# Altium schematic symbol library kmilo17pet-AD_Isolators.SchLib: 645 symbols (part 7 of 36)
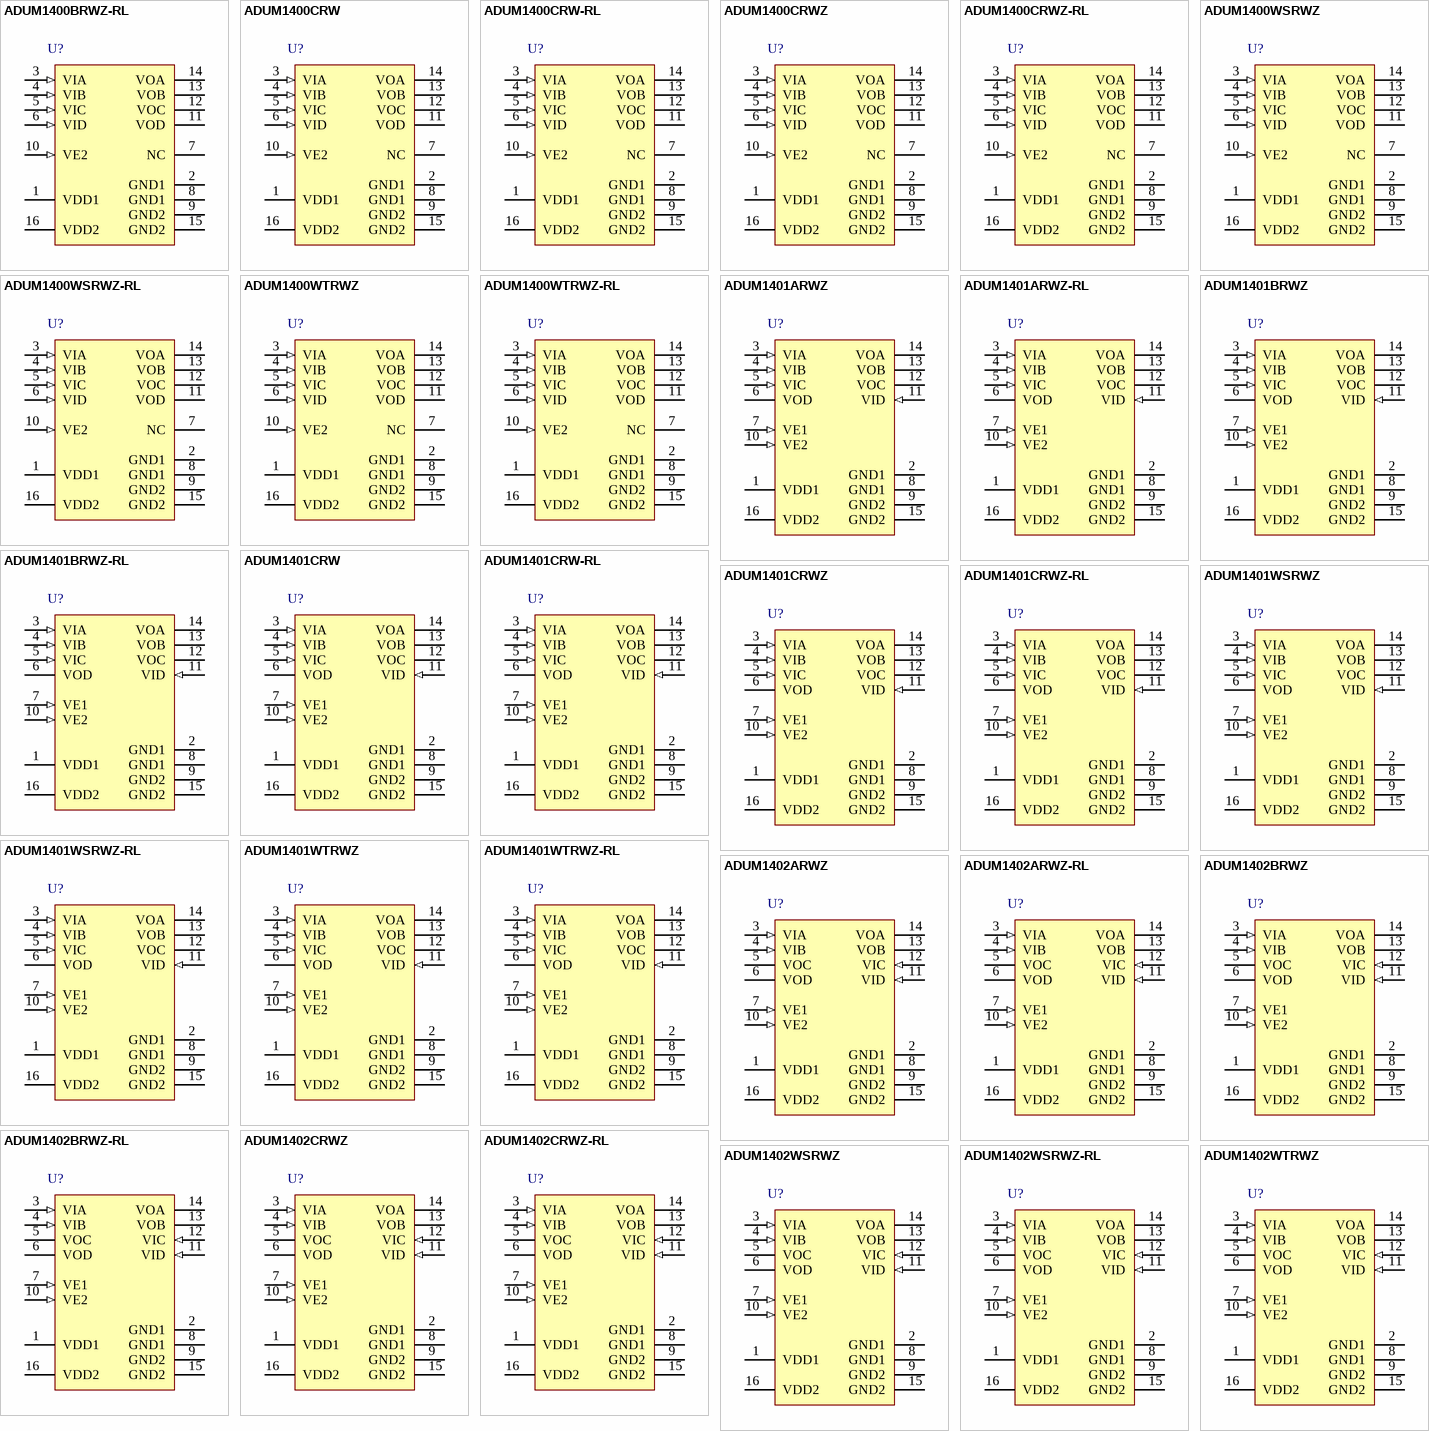
[diagram p26: symbols ADUM1400BRWZ-RL to ADUM1402WTRWZ]

## ADUM1402ARWZ-RL
designator U?
Quad Channel Digital Isolator, 2.5 KV rms Insulation Rating, 1 Mbps Data Rate, 100 ns Delay, Industrial, 16-pin SOIC (RW-16), Reel; Manufacturer: Analog Devices; PartNumber: ADUM1402ARWZ-RL; Max Data Rate: 1Mbps; DatasheetVersion: Rev. H; PackageVersion: 032707-B, 03/2007; PackageReference: RW-16; PackageDescription: 16-Pin Standard Small Outline Package, Body 10.3 x 7.5 mm, Pitch 1.27 mm; Supplier 1: Digi-Key; Supplier Part Number 1: ADUM1402ARWZ-RLTR-ND; Max Operating Temp (degreesC): 125; Mounting Technology: Surface Mount; Code_JEDEC: MS-013-AA; ComponentLink1Description: Manufacturer URL; ComponentLink1URL: http://www.analog.com/en/index.html; ComponentLink2Description: Datasheet; ComponentLink2URL: http://www.analog.com/static/imported-files/data_sheets/ADuM1400_1401_1402.pdf; ComponentLink3Description: Package Specification; ComponentLink3URL: http://www.analog.com/static/imported-files/packages/PKG_PDF/SOIC_WIDE%20%28RW%29/RW_16.pdf; ComponentLink4Description: URL Link1; ComponentLink4URL: Product URL:http://www.analog.com/en/interface-isolation/digital-isolators/adum1402/products/product.html; ComponentLink5Description: URL Link2; ComponentLink5URL: Reference Circuit:http://www.analog.com/en/interface-isolation/digital-isolators/adum1402/products/product.html#product-recommendations
footprint ADI-RW-16_N (SOIC, 16-Leads, Body 10.3x7.5mm, Pitch 1.27mm, IPC Medium Density)
footprint ADI-RW-16_L (SOIC, 16-Leads, Body 10.3x7.5mm, Pitch 1.27mm, IPC High Density)
footprint ADI-RW-16_M (SOIC, 16-Leads, Body 10.3x7.5mm, Pitch 1.27mm, IPC Low Density)
pins: 1 VDD1 (power) "Supply Voltage for Isolator Side 1.", 2 GND1 (power) "Ground 1. Ground reference for Isolator Side 1.", 3 VIA (in) "Logic Input A.", 4 VIB (in) "Logic Input B.", 5 VOC (hiz) "Logic Output C.", 6 VOD (hiz) "Logic Output D.", 7 VE1 (in) "Output Enable 1. Active high logic input. VOC and VOD outputs are enabled when VE1 is high or disconnected. VOC and VOD outputs are disabled when VE1 is low. In noisy environments, connecting VE1 to an external logic high or (See Datasheet)", 8 GND1 (power) "Ground 1. Ground reference for Isolator Side 1.", 9 GND2 (power) "Ground 2. Ground reference for Isolator Side 2.", 10 VE2 (in) "Output Enable 2. Active high logic input. VOA and VOB outputs are enabled when VE2 is high or disconnected. VOA and VOB outputs are disabled when VE2 is low. In noisy environments, connecting VE2 to an external logic high or (See Datasheet)", 11 VID (in) "Logic Input D.", 12 VIC (in) "Logic Input C.", 13 VOB (hiz) "Logic Output B.", 14 VOA (hiz) "Logic Output A.", 15 GND2 (power) "Ground 2. Ground reference for Isolator Side 2.", 16 VDD2 (power) "Supply Voltage for Isolator Side 2."

## ADUM1402BRWZ
designator U?
Quad Channel Digital Isolator, 2.5 KV rms Insulation Rating, 10 Mbps Data Rate, 50 ns Delay, Industrial, 16-pin SOIC (RW-16), Tube; Manufacturer: Analog Devices; PartNumber: ADUM1402BRWZ; Max Data Rate: 10Mbps; DatasheetVersion: Rev. H; PackageVersion: 032707-B, 03/2007; PackageReference: RW-16; PackageDescription: 16-Pin Standard Small Outline Package, Body 10.3 x 7.5 mm, Pitch 1.27 mm; Supplier 1: Digi-Key; Supplier Part Number 1: ADUM1402BRWZ-ND; Max Operating Temp (degreesC): 125; Mounting Technology: Surface Mount; Code_JEDEC: MS-013-AA; ComponentLink1Description: Manufacturer URL; ComponentLink1URL: http://www.analog.com/en/index.html; ComponentLink2Description: Datasheet; ComponentLink2URL: http://www.analog.com/static/imported-files/data_sheets/ADuM1400_1401_1402.pdf; ComponentLink3Description: Package Specification; ComponentLink3URL: http://www.analog.com/static/imported-files/packages/PKG_PDF/SOIC_WIDE%20%28RW%29/RW_16.pdf; ComponentLink4Description: URL Link1; ComponentLink4URL: Product URL:http://www.analog.com/en/interface-isolation/digital-isolators/adum1402/products/product.html; ComponentLink5Description: URL Link2; ComponentLink5URL: Reference Circuit:http://www.analog.com/en/interface-isolation/digital-isolators/adum1402/products/product.html#product-recommendations
footprint ADI-RW-16_N (SOIC, 16-Leads, Body 10.3x7.5mm, Pitch 1.27mm, IPC Medium Density)
footprint ADI-RW-16_L (SOIC, 16-Leads, Body 10.3x7.5mm, Pitch 1.27mm, IPC High Density)
footprint ADI-RW-16_M (SOIC, 16-Leads, Body 10.3x7.5mm, Pitch 1.27mm, IPC Low Density)
pins: 1 VDD1 (power) "Supply Voltage for Isolator Side 1.", 2 GND1 (power) "Ground 1. Ground reference for Isolator Side 1.", 3 VIA (in) "Logic Input A.", 4 VIB (in) "Logic Input B.", 5 VOC (hiz) "Logic Output C.", 6 VOD (hiz) "Logic Output D.", 7 VE1 (in) "Output Enable 1. Active high logic input. VOC and VOD outputs are enabled when VE1 is high or disconnected. VOC and VOD outputs are disabled when VE1 is low. In noisy environments, connecting VE1 to an external logic high or (See Datasheet)", 8 GND1 (power) "Ground 1. Ground reference for Isolator Side 1.", 9 GND2 (power) "Ground 2. Ground reference for Isolator Side 2.", 10 VE2 (in) "Output Enable 2. Active high logic input. VOA and VOB outputs are enabled when VE2 is high or disconnected. VOA and VOB outputs are disabled when VE2 is low. In noisy environments, connecting VE2 to an external logic high or (See Datasheet)", 11 VID (in) "Logic Input D.", 12 VIC (in) "Logic Input C.", 13 VOB (hiz) "Logic Output B.", 14 VOA (hiz) "Logic Output A.", 15 GND2 (power) "Ground 2. Ground reference for Isolator Side 2.", 16 VDD2 (power) "Supply Voltage for Isolator Side 2."

## ADUM1402BRWZ-RL
designator U?
Quad Channel Digital Isolator, 2.5 KV rms Insulation Rating, 10 Mbps Data Rate, 50 ns Delay, Industrial, 16-pin SOIC (RW-16), Reel; Manufacturer: Analog Devices; PartNumber: ADUM1402BRWZ-RL; Insulation Rating (kVrms): 2.5; Max Data Rate: 10Mbps; DatasheetVersion: Rev. H; PackageVersion: 032707-B, 03/2007; PackageReference: RW-16; PackageDescription: 16-Pin Standard Small Outline Package, Body 10.3 x 7.5 mm, Pitch 1.27 mm; Supplier 1: Digi-Key; Supplier Part Number 1: ADUM1402BRWZ-RLTR-ND; Max Operating Temp (degreesC): 125; Mounting Technology: Surface Mount; Code_JEDEC: MS-013-AA; ComponentLink1Description: Manufacturer URL; ComponentLink1URL: http://www.analog.com/en/index.html; ComponentLink2Description: Datasheet; ComponentLink2URL: http://www.analog.com/static/imported-files/data_sheets/ADuM1400_1401_1402.pdf; ComponentLink3Description: Package Specification; ComponentLink3URL: http://www.analog.com/static/imported-files/packages/PKG_PDF/SOIC_WIDE%20%28RW%29/RW_16.pdf; ComponentLink4Description: URL Link1; ComponentLink4URL: Product URL:http://www.analog.com/en/interface-isolation/digital-isolators/adum1402/products/product.html; ComponentLink5Description: URL Link2; ComponentLink5URL: Reference Circuit:http://www.analog.com/en/interface-isolation/digital-isolators/adum1402/products/product.html#product-recommendations
footprint ADI-RW-16_N (SOIC, 16-Leads, Body 10.3x7.5mm, Pitch 1.27mm, IPC Medium Density)
footprint ADI-RW-16_L (SOIC, 16-Leads, Body 10.3x7.5mm, Pitch 1.27mm, IPC High Density)
footprint ADI-RW-16_M (SOIC, 16-Leads, Body 10.3x7.5mm, Pitch 1.27mm, IPC Low Density)
pins: 1 VDD1 (power) "Supply Voltage for Isolator Side 1.", 2 GND1 (power) "Ground 1. Ground reference for Isolator Side 1.", 3 VIA (in) "Logic Input A.", 4 VIB (in) "Logic Input B.", 5 VOC (hiz) "Logic Output C.", 6 VOD (hiz) "Logic Output D.", 7 VE1 (in) "Output Enable 1. Active high logic input. VOC and VOD outputs are enabled when VE1 is high or disconnected. VOC and VOD outputs are disabled when VE1 is low. In noisy environments, connecting VE1 to an external logic high or (See Datasheet)", 8 GND1 (power) "Ground 1. Ground reference for Isolator Side 1.", 9 GND2 (power) "Ground 2. Ground reference for Isolator Side 2.", 10 VE2 (in) "Output Enable 2. Active high logic input. VOA and VOB outputs are enabled when VE2 is high or disconnected. VOA and VOB outputs are disabled when VE2 is low. In noisy environments, connecting VE2 to an external logic high or (See Datasheet)", 11 VID (in) "Logic Input D.", 12 VIC (in) "Logic Input C.", 13 VOB (hiz) "Logic Output B.", 14 VOA (hiz) "Logic Output A.", 15 GND2 (power) "Ground 2. Ground reference for Isolator Side 2.", 16 VDD2 (power) "Supply Voltage for Isolator Side 2."

## ADUM1402CRWZ
designator U?
Quad Channel Digital Isolator, 2.5 KV rms Insulation Rating, 90 Mbps Data Rate, 32 ns Delay, Industrial, 16-pin SOIC (RW-16), Tube; Manufacturer: Analog Devices; PartNumber: ADUM1402CRWZ; Insulation Rating (kVrms): 2.5; Max Data Rate: 90Mbps; DatasheetVersion: Rev. H; PackageVersion: 032707-B, 03/2007; PackageReference: RW-16; PackageDescription: 16-Pin Standard Small Outline Package, Body 10.3 x 7.5 mm, Pitch 1.27 mm; Supplier 1: Digi-Key; Supplier Part Number 1: ADUM1402CRWZ-ND; Max Operating Temp (degreesC): 125; Mounting Technology: Surface Mount; Code_JEDEC: MS-013-AA; ComponentLink1Description: Manufacturer URL; ComponentLink1URL: http://www.analog.com/en/index.html; ComponentLink2Description: Datasheet; ComponentLink2URL: http://www.analog.com/static/imported-files/data_sheets/ADuM1400_1401_1402.pdf; ComponentLink3Description: Package Specification; ComponentLink3URL: http://www.analog.com/static/imported-files/packages/PKG_PDF/SOIC_WIDE%20%28RW%29/RW_16.pdf; ComponentLink4Description: URL Link1; ComponentLink4URL: Product URL:http://www.analog.com/en/interface-isolation/digital-isolators/adum1402/products/product.html; ComponentLink5Description: URL Link2; ComponentLink5URL: Reference Circuit:http://www.analog.com/en/interface-isolation/digital-isolators/adum1402/products/product.html#product-recommendations
footprint ADI-RW-16_N (SOIC, 16-Leads, Body 10.3x7.5mm, Pitch 1.27mm, IPC Medium Density)
footprint ADI-RW-16_L (SOIC, 16-Leads, Body 10.3x7.5mm, Pitch 1.27mm, IPC High Density)
footprint ADI-RW-16_M (SOIC, 16-Leads, Body 10.3x7.5mm, Pitch 1.27mm, IPC Low Density)
pins: 1 VDD1 (power) "Supply Voltage for Isolator Side 1.", 2 GND1 (power) "Ground 1. Ground reference for Isolator Side 1.", 3 VIA (in) "Logic Input A.", 4 VIB (in) "Logic Input B.", 5 VOC (hiz) "Logic Output C.", 6 VOD (hiz) "Logic Output D.", 7 VE1 (in) "Output Enable 1. Active high logic input. VOC and VOD outputs are enabled when VE1 is high or disconnected. VOC and VOD outputs are disabled when VE1 is low. In noisy environments, connecting VE1 to an external logic high or (See Datasheet)", 8 GND1 (power) "Ground 1. Ground reference for Isolator Side 1.", 9 GND2 (power) "Ground 2. Ground reference for Isolator Side 2.", 10 VE2 (in) "Output Enable 2. Active high logic input. VOA and VOB outputs are enabled when VE2 is high or disconnected. VOA and VOB outputs are disabled when VE2 is low. In noisy environments, connecting VE2 to an external logic high or (See Datasheet)", 11 VID (in) "Logic Input D.", 12 VIC (in) "Logic Input C.", 13 VOB (hiz) "Logic Output B.", 14 VOA (hiz) "Logic Output A.", 15 GND2 (power) "Ground 2. Ground reference for Isolator Side 2.", 16 VDD2 (power) "Supply Voltage for Isolator Side 2."

## ADUM1402CRWZ-RL
designator U?
Quad Channel Digital Isolator, 2.5 KV rms Insulation Rating, 90 Mbps Data Rate, 32 ns Delay, Industrial, 16-pin SOIC (RW-16), Reel; Manufacturer: Analog Devices; PartNumber: ADUM1402CRWZ-RL; Insulation Rating (kVrms): 2.5; Max Data Rate: 90Mbps; DatasheetVersion: Rev. H; PackageVersion: 032707-B, 03/2007; PackageReference: RW-16; PackageDescription: 16-Pin Standard Small Outline Package, Body 10.3 x 7.5 mm, Pitch 1.27 mm; Supplier 1: Digi-Key; Supplier Part Number 1: ADUM1402CRWZ-RLTR-ND; Max Operating Temp (degreesC): 125; Mounting Technology: Surface Mount; Code_JEDEC: MS-013-AA; ComponentLink1Description: Manufacturer URL; ComponentLink1URL: http://www.analog.com/en/index.html; ComponentLink2Description: Datasheet; ComponentLink2URL: http://www.analog.com/static/imported-files/data_sheets/ADuM1400_1401_1402.pdf; ComponentLink3Description: Package Specification; ComponentLink3URL: http://www.analog.com/static/imported-files/packages/PKG_PDF/SOIC_WIDE%20%28RW%29/RW_16.pdf; ComponentLink4Description: URL Link1; ComponentLink4URL: Product URL:http://www.analog.com/en/interface-isolation/digital-isolators/adum1402/products/product.html; ComponentLink5Description: URL Link2; ComponentLink5URL: Reference Circuit:http://www.analog.com/en/interface-isolation/digital-isolators/adum1402/products/product.html#product-recommendations
footprint ADI-RW-16_N (SOIC, 16-Leads, Body 10.3x7.5mm, Pitch 1.27mm, IPC Medium Density)
footprint ADI-RW-16_L (SOIC, 16-Leads, Body 10.3x7.5mm, Pitch 1.27mm, IPC High Density)
footprint ADI-RW-16_M (SOIC, 16-Leads, Body 10.3x7.5mm, Pitch 1.27mm, IPC Low Density)
pins: 1 VDD1 (power) "Supply Voltage for Isolator Side 1.", 2 GND1 (power) "Ground 1. Ground reference for Isolator Side 1.", 3 VIA (in) "Logic Input A.", 4 VIB (in) "Logic Input B.", 5 VOC (hiz) "Logic Output C.", 6 VOD (hiz) "Logic Output D.", 7 VE1 (in) "Output Enable 1. Active high logic input. VOC and VOD outputs are enabled when VE1 is high or disconnected. VOC and VOD outputs are disabled when VE1 is low. In noisy environments, connecting VE1 to an external logic high or (See Datasheet)", 8 GND1 (power) "Ground 1. Ground reference for Isolator Side 1.", 9 GND2 (power) "Ground 2. Ground reference for Isolator Side 2.", 10 VE2 (in) "Output Enable 2. Active high logic input. VOA and VOB outputs are enabled when VE2 is high or disconnected. VOA and VOB outputs are disabled when VE2 is low. In noisy environments, connecting VE2 to an external logic high or (See Datasheet)", 11 VID (in) "Logic Input D.", 12 VIC (in) "Logic Input C.", 13 VOB (hiz) "Logic Output B.", 14 VOA (hiz) "Logic Output A.", 15 GND2 (power) "Ground 2. Ground reference for Isolator Side 2.", 16 VDD2 (power) "Supply Voltage for Isolator Side 2."

## ADUM1402WSRWZ
designator U?
Quad Channel Digital Isolator, 2.5 KV rms Insulation Rating, 1 Mbps Data Rate, 100 ns Delay, Automotive, 16-pin SOIC (RW-16), Tube; Manufacturer: Analog Devices; PartNumber: ADUM1402WSRWZ; Automotive Qualified: Yes; Insulation Rating (kVrms): 2.5; Max Data Rate: 1Mbps; DatasheetVersion: Rev. H; PackageVersion: 032707-B, 03/2007; PackageReference: RW-16; PackageDescription: 16-Pin Standard Small Outline Package, Body 10.3 x 7.5 mm, Pitch 1.27 mm; Supplier 1: Digi-Key; Supplier Part Number 1: ADUM1402WSRWZ-ND; Max Operating Temp (degreesC): 125; Mounting Technology: Surface Mount; Code_JEDEC: MS-013-AA; ComponentLink1Description: Manufacturer URL; ComponentLink1URL: http://www.analog.com/en/index.html; ComponentLink2Description: Datasheet; ComponentLink2URL: http://www.analog.com/static/imported-files/data_sheets/ADuM1400_1401_1402.pdf; ComponentLink3Description: Package Specification; ComponentLink3URL: http://www.analog.com/static/imported-files/packages/PKG_PDF/SOIC_WIDE%20%28RW%29/RW_16.pdf; ComponentLink4Description: URL Link1; ComponentLink4URL: Product URL:http://www.analog.com/en/interface-isolation/digital-isolators/adum1402/products/product.html; ComponentLink5Description: URL Link2; ComponentLink5URL: Reference Circuit:http://www.analog.com/en/interface-isolation/digital-isolators/adum1402/products/product.html#product-recommendations
footprint ADI-RW-16_N (SOIC, 16-Leads, Body 10.3x7.5mm, Pitch 1.27mm, IPC Medium Density)
footprint ADI-RW-16_L (SOIC, 16-Leads, Body 10.3x7.5mm, Pitch 1.27mm, IPC High Density)
footprint ADI-RW-16_M (SOIC, 16-Leads, Body 10.3x7.5mm, Pitch 1.27mm, IPC Low Density)
pins: 1 VDD1 (power) "Supply Voltage for Isolator Side 1.", 2 GND1 (power) "Ground 1. Ground reference for Isolator Side 1.", 3 VIA (in) "Logic Input A.", 4 VIB (in) "Logic Input B.", 5 VOC (hiz) "Logic Output C.", 6 VOD (hiz) "Logic Output D.", 7 VE1 (in) "Output Enable 1. Active high logic input. VOC and VOD outputs are enabled when VE1 is high or disconnected. VOC and VOD outputs are disabled when VE1 is low. In noisy environments, connecting VE1 to an external logic high or (See Datasheet)", 8 GND1 (power) "Ground 1. Ground reference for Isolator Side 1.", 9 GND2 (power) "Ground 2. Ground reference for Isolator Side 2.", 10 VE2 (in) "Output Enable 2. Active high logic input. VOA and VOB outputs are enabled when VE2 is high or disconnected. VOA and VOB outputs are disabled when VE2 is low. In noisy environments, connecting VE2 to an external logic high or (See Datasheet)", 11 VID (in) "Logic Input D.", 12 VIC (in) "Logic Input C.", 13 VOB (hiz) "Logic Output B.", 14 VOA (hiz) "Logic Output A.", 15 GND2 (power) "Ground 2. Ground reference for Isolator Side 2.", 16 VDD2 (power) "Supply Voltage for Isolator Side 2."

## ADUM1402WSRWZ-RL
designator U?
Quad Channel Digital Isolator, 2.5 KV rms Insulation Rating, 1 Mbps Data Rate, 100 ns Delay, Automotive, 16-pin SOIC (RW-16), Reel; Manufacturer: Analog Devices; PartNumber: ADUM1402WSRWZ-RL; Automotive Qualified: Yes; Insulation Rating (kVrms): 2.5; Max Data Rate: 1Mbps; DatasheetVersion: Rev. H; PackageVersion: 032707-B, 03/2007; PackageReference: RW-16; PackageDescription: 16-Pin Standard Small Outline Package, Body 10.3 x 7.5 mm, Pitch 1.27 mm; Supplier 1: Digi-Key; Supplier Part Number 1: ADUM1402WSRWZ-RLCT-ND; Max Operating Temp (degreesC): 125; Mounting Technology: Surface Mount; Code_JEDEC: MS-013-AA; ComponentLink1Description: Manufacturer URL; ComponentLink1URL: http://www.analog.com/en/index.html; ComponentLink2Description: Datasheet; ComponentLink2URL: http://www.analog.com/static/imported-files/data_sheets/ADuM1400_1401_1402.pdf; ComponentLink3Description: Package Specification; ComponentLink3URL: http://www.analog.com/static/imported-files/packages/PKG_PDF/SOIC_WIDE%20%28RW%29/RW_16.pdf; ComponentLink4Description: URL Link1; ComponentLink4URL: Product URL:http://www.analog.com/en/interface-isolation/digital-isolators/adum1402/products/product.html; ComponentLink5Description: URL Link2; ComponentLink5URL: Reference Circuit:http://www.analog.com/en/interface-isolation/digital-isolators/adum1402/products/product.html#product-recommendations
footprint ADI-RW-16_N (SOIC, 16-Leads, Body 10.3x7.5mm, Pitch 1.27mm, IPC Medium Density)
footprint ADI-RW-16_L (SOIC, 16-Leads, Body 10.3x7.5mm, Pitch 1.27mm, IPC High Density)
footprint ADI-RW-16_M (SOIC, 16-Leads, Body 10.3x7.5mm, Pitch 1.27mm, IPC Low Density)
pins: 1 VDD1 (power) "Supply Voltage for Isolator Side 1.", 2 GND1 (power) "Ground 1. Ground reference for Isolator Side 1.", 3 VIA (in) "Logic Input A.", 4 VIB (in) "Logic Input B.", 5 VOC (hiz) "Logic Output C.", 6 VOD (hiz) "Logic Output D.", 7 VE1 (in) "Output Enable 1. Active high logic input. VOC and VOD outputs are enabled when VE1 is high or disconnected. VOC and VOD outputs are disabled when VE1 is low. In noisy environments, connecting VE1 to an external logic high or (See Datasheet)", 8 GND1 (power) "Ground 1. Ground reference for Isolator Side 1.", 9 GND2 (power) "Ground 2. Ground reference for Isolator Side 2.", 10 VE2 (in) "Output Enable 2. Active high logic input. VOA and VOB outputs are enabled when VE2 is high or disconnected. VOA and VOB outputs are disabled when VE2 is low. In noisy environments, connecting VE2 to an external logic high or (See Datasheet)", 11 VID (in) "Logic Input D.", 12 VIC (in) "Logic Input C.", 13 VOB (hiz) "Logic Output B.", 14 VOA (hiz) "Logic Output A.", 15 GND2 (power) "Ground 2. Ground reference for Isolator Side 2.", 16 VDD2 (power) "Supply Voltage for Isolator Side 2."

## ADUM1402WTRWZ
designator U?
Quad Channel Digital Isolator, 2.5 KV rms Insulation Rating, 10 Mbps Data Rate, 32 ns Delay, Automotive, 16-pin SOIC (RW-16), Tube; Manufacturer: Analog Devices; PartNumber: ADUM1402WTRWZ; Automotive Qualified: Yes; Insulation Rating (kVrms): 2.5; Max Data Rate: 10Mbps; DatasheetVersion: Rev. H; PackageVersion: 032707-B, 03/2007; PackageReference: RW-16; PackageDescription: 16-Pin Standard Small Outline Package, Body 10.3 x 7.5 mm, Pitch 1.27 mm; Supplier 1: Digi-Key; Supplier Part Number 1: ADUM1402WTRWZ-ND; Max Operating Temp (degreesC): 125; Mounting Technology: Surface Mount; Code_JEDEC: MS-013-AA; ComponentLink1Description: Manufacturer URL; ComponentLink1URL: http://www.analog.com/en/index.html; ComponentLink2Description: Datasheet; ComponentLink2URL: http://www.analog.com/static/imported-files/data_sheets/ADuM1400_1401_1402.pdf; ComponentLink3Description: Package Specification; ComponentLink3URL: http://www.analog.com/static/imported-files/packages/PKG_PDF/SOIC_WIDE%20%28RW%29/RW_16.pdf; ComponentLink4Description: URL Link1; ComponentLink4URL: Product URL:http://www.analog.com/en/interface-isolation/digital-isolators/adum1402/products/product.html; ComponentLink5Description: URL Link2; ComponentLink5URL: Reference Circuit:http://www.analog.com/en/interface-isolation/digital-isolators/adum1402/products/product.html#product-recommendations
footprint ADI-RW-16_N (SOIC, 16-Leads, Body 10.3x7.5mm, Pitch 1.27mm, IPC Medium Density)
footprint ADI-RW-16_L (SOIC, 16-Leads, Body 10.3x7.5mm, Pitch 1.27mm, IPC High Density)
footprint ADI-RW-16_M (SOIC, 16-Leads, Body 10.3x7.5mm, Pitch 1.27mm, IPC Low Density)
pins: 1 VDD1 (power) "Supply Voltage for Isolator Side 1.", 2 GND1 (power) "Ground 1. Ground reference for Isolator Side 1.", 3 VIA (in) "Logic Input A.", 4 VIB (in) "Logic Input B.", 5 VOC (hiz) "Logic Output C.", 6 VOD (hiz) "Logic Output D.", 7 VE1 (in) "Output Enable 1. Active high logic input. VOC and VOD outputs are enabled when VE1 is high or disconnected. VOC and VOD outputs are disabled when VE1 is low. In noisy environments, connecting VE1 to an external logic high or (See Datasheet)", 8 GND1 (power) "Ground 1. Ground reference for Isolator Side 1.", 9 GND2 (power) "Ground 2. Ground reference for Isolator Side 2.", 10 VE2 (in) "Output Enable 2. Active high logic input. VOA and VOB outputs are enabled when VE2 is high or disconnected. VOA and VOB outputs are disabled when VE2 is low. In noisy environments, connecting VE2 to an external logic high or (See Datasheet)", 11 VID (in) "Logic Input D.", 12 VIC (in) "Logic Input C.", 13 VOB (hiz) "Logic Output B.", 14 VOA (hiz) "Logic Output A.", 15 GND2 (power) "Ground 2. Ground reference for Isolator Side 2.", 16 VDD2 (power) "Supply Voltage for Isolator Side 2."

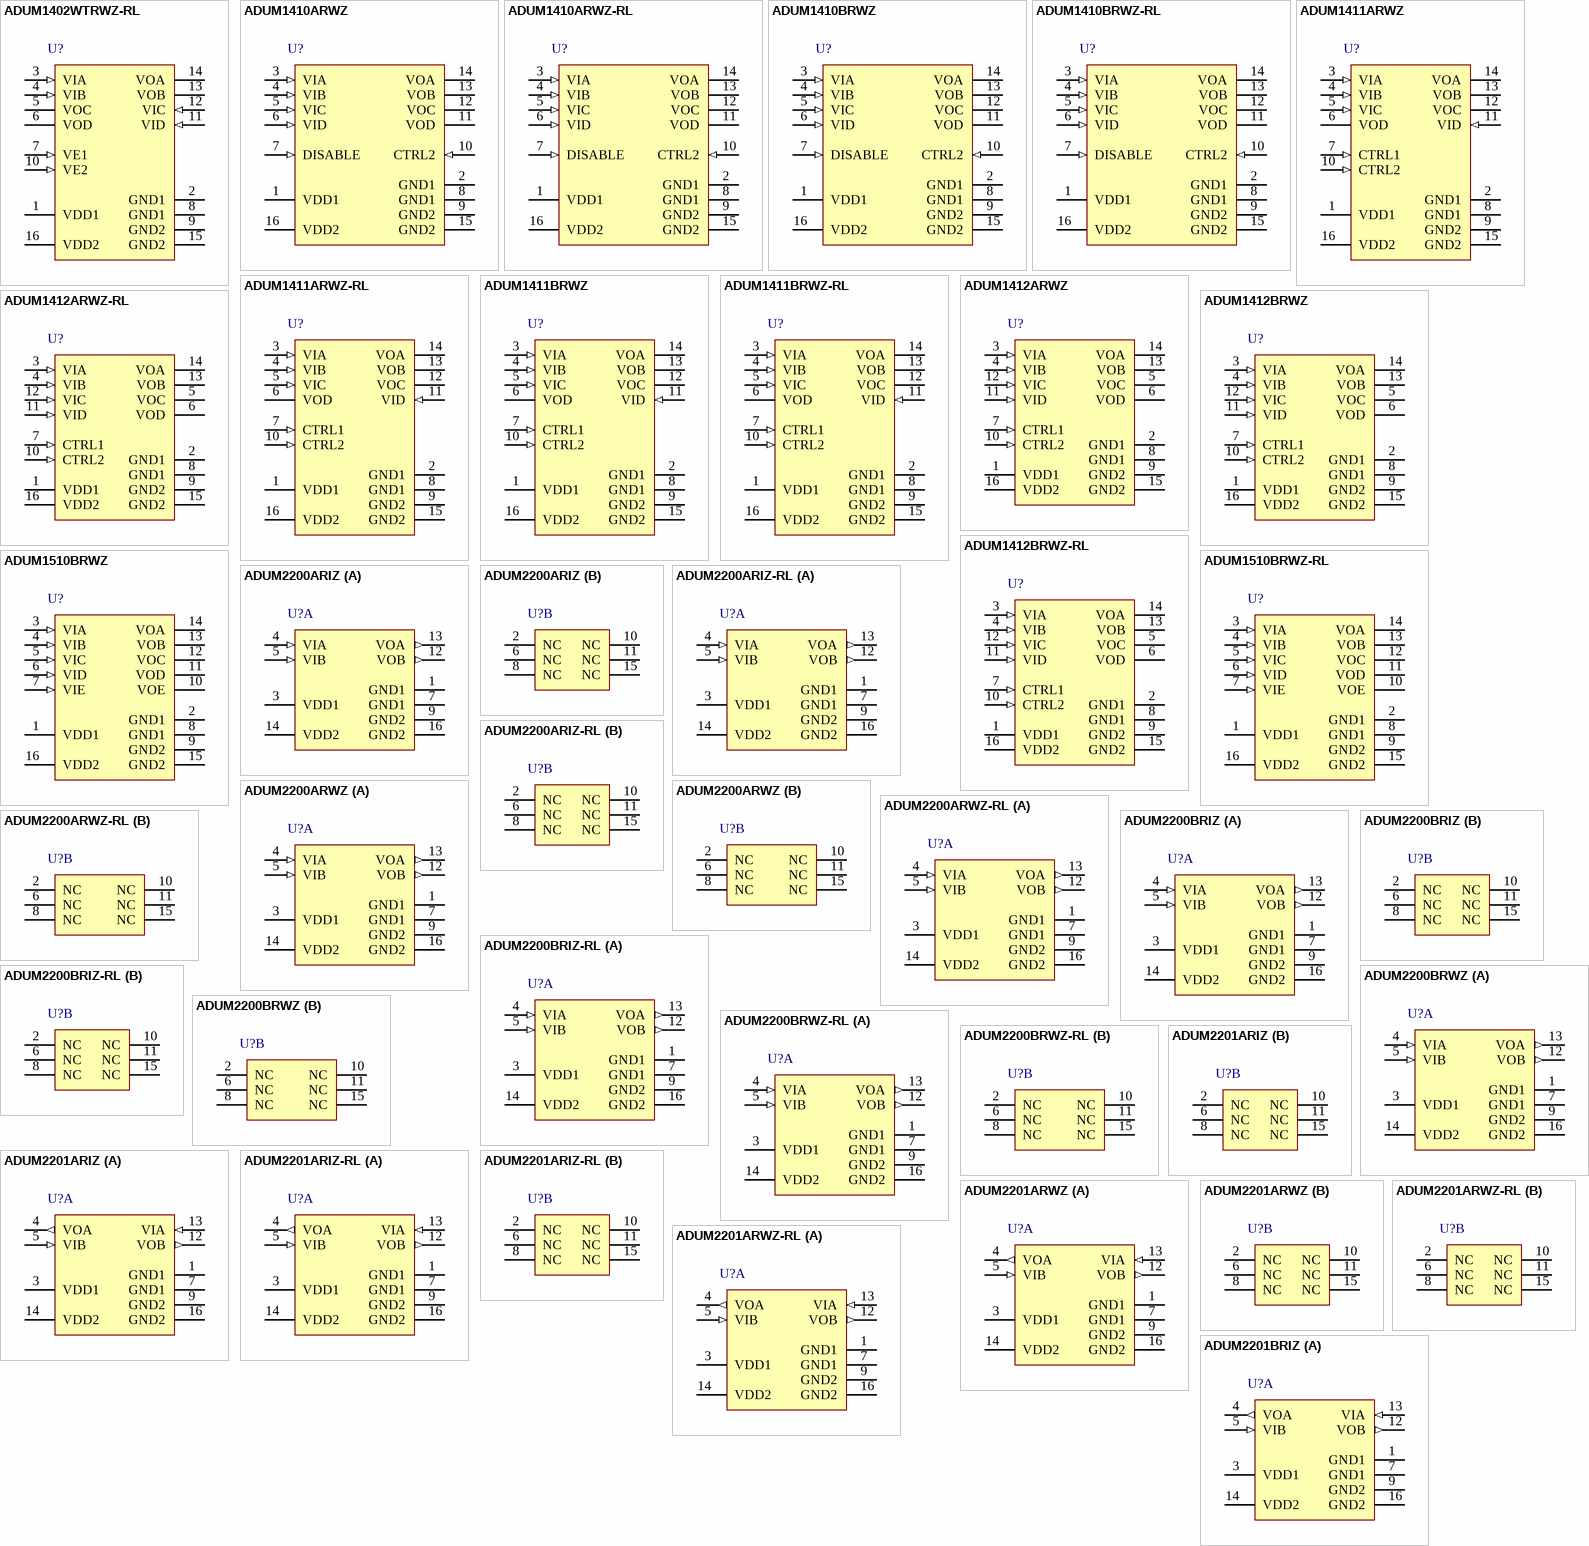
[diagram p4: symbols ADUM1402WTRWZ-RL to ADUM2201BRIZ]

## ADUM1402WTRWZ-RL
designator U?
Quad Channel Digital Isolator, 2.5 KV rms Insulation Rating, 10 Mbps Data Rate, 32 ns Delay, Automotive, 16-pin SOIC (RW-16), Reel; Manufacturer: Analog Devices; PartNumber: ADUM1402WTRWZ-RL; Automotive Qualified: Yes; Insulation Rating (kVrms): 2.5; Max Data Rate: 10Mbps; DatasheetVersion: Rev. H; PackageVersion: 032707-B, 03/2007; PackageReference: RW-16; PackageDescription: 16-Pin Standard Small Outline Package, Body 10.3 x 7.5 mm, Pitch 1.27 mm; Supplier 1: Digi-Key; Supplier Part Number 1: ADUM1402WTRWZ-RL-ND; Max Operating Temp (degreesC): 125; Mounting Technology: Surface Mount; Code_JEDEC: MS-013-AA; ComponentLink1Description: Manufacturer URL; ComponentLink1URL: http://www.analog.com/en/index.html; ComponentLink2Description: Datasheet; ComponentLink2URL: http://www.analog.com/static/imported-files/data_sheets/ADuM1400_1401_1402.pdf; ComponentLink3Description: Package Specification; ComponentLink3URL: http://www.analog.com/static/imported-files/packages/PKG_PDF/SOIC_WIDE%20%28RW%29/RW_16.pdf; ComponentLink4Description: URL Link1; ComponentLink4URL: Product URL:http://www.analog.com/en/interface-isolation/digital-isolators/adum1402/products/product.html; ComponentLink5Description: URL Link2; ComponentLink5URL: Reference Circuit:http://www.analog.com/en/interface-isolation/digital-isolators/adum1402/products/product.html#product-recommendations
footprint ADI-RW-16_N (SOIC, 16-Leads, Body 10.3x7.5mm, Pitch 1.27mm, IPC Medium Density)
footprint ADI-RW-16_L (SOIC, 16-Leads, Body 10.3x7.5mm, Pitch 1.27mm, IPC High Density)
footprint ADI-RW-16_M (SOIC, 16-Leads, Body 10.3x7.5mm, Pitch 1.27mm, IPC Low Density)
pins: 1 VDD1 (power) "Supply Voltage for Isolator Side 1.", 2 GND1 (power) "Ground 1. Ground reference for Isolator Side 1.", 3 VIA (in) "Logic Input A.", 4 VIB (in) "Logic Input B.", 5 VOC (hiz) "Logic Output C.", 6 VOD (hiz) "Logic Output D.", 7 VE1 (in) "Output Enable 1. Active high logic input. VOC and VOD outputs are enabled when VE1 is high or disconnected. VOC and VOD outputs are disabled when VE1 is low. In noisy environments, connecting VE1 to an external logic high or (See Datasheet)", 8 GND1 (power) "Ground 1. Ground reference for Isolator Side 1.", 9 GND2 (power) "Ground 2. Ground reference for Isolator Side 2.", 10 VE2 (in) "Output Enable 2. Active high logic input. VOA and VOB outputs are enabled when VE2 is high or disconnected. VOA and VOB outputs are disabled when VE2 is low. In noisy environments, connecting VE2 to an external logic high or (See Datasheet)", 11 VID (in) "Logic Input D.", 12 VIC (in) "Logic Input C.", 13 VOB (hiz) "Logic Output B.", 14 VOA (hiz) "Logic Output A.", 15 GND2 (power) "Ground 2. Ground reference for Isolator Side 2.", 16 VDD2 (power) "Supply Voltage for Isolator Side 2."

## ADUM1410ARWZ
designator U?
Quad Channel Digital Isolator, 2.5 KV rms Insulation Rating, 1 Mbps Data Rate, 100 ns Delay, Industrial, 16-pin SOIC (RW-16), Tube; Manufacturer: Analog Devices; PartNumber: ADUM1410ARWZ; Insulation Rating (kVrms): 2.5; Max Data Rate: 1Mbps; DatasheetVersion: Rev. I; PackageVersion: 032707-B, 03/2007; PackageReference: RW-16; PackageDescription: 16-Pin Standard Small Outline Package, Body 10.3 x 7.5 mm, Pitch 1.27 mm; Supplier 1: Digi-Key; Supplier Part Number 1: ADUM1410ARWZ-ND; Max Operating Temp (degreesC): 105; Mounting Technology: Surface Mount; Code_JEDEC: MS-013-AA; ComponentLink1Description: Manufacturer URL; ComponentLink1URL: http://www.analog.com/en/index.html; ComponentLink2Description: Datasheet; ComponentLink2URL: http://www.analog.com/static/imported-files/data_sheets/ADUM1410_1411_1412.pdf; ComponentLink3Description: Package Specification; ComponentLink3URL: http://www.analog.com/static/imported-files/packages/PKG_PDF/SOIC_WIDE%20%28RW%29/RW_16.pdf; ComponentLink4Description: URL Link1; ComponentLink4URL: Product URL:http://www.analog.com/en/interface-isolation/digital-isolators/adum1410/products/product.html
footprint ADI-RW-16_N (SOIC, 16-Leads, Body 10.3x7.5mm, Pitch 1.27mm, IPC Medium Density)
footprint ADI-RW-16_L (SOIC, 16-Leads, Body 10.3x7.5mm, Pitch 1.27mm, IPC High Density)
footprint ADI-RW-16_M (SOIC, 16-Leads, Body 10.3x7.5mm, Pitch 1.27mm, IPC Low Density)
pins: 1 VDD1 (power) "Supply Voltage for Isolator Side 1 (2.7 V to 5.5 V).", 2 GND1 (power) "Ground 1. Ground reference for Isolator Side 1. Pin 2 and Pin 8 are internally connected, and connecting both to GND1 is recommended.", 3 VIA (in) "Logic Input A.", 4 VIB (in) "Logic Input B.", 5 VIC (in) "Logic Input C.", 6 VID (in) "Logic Input D.", 7 DISABLE (in) "Input Disable. Disables the isolator inputs and halts the dc refresh circuits. Outputs take on the logic state determined by CTRL2.", 8 GND1 (power) "Ground 1. Ground reference for Isolator Side 1. Pin 2 and Pin 8 are internally connected, and connecting both to GND1 is recommended.", 9 GND2 (power) "Ground 2. Ground reference for Isolator Side 2. Pin 9 and Pin 15 are internally connected, and connecting both to GND2 is recommended.", 10 CTRL2 (in) "Default Output Control. Controls the logic state the outputs assume when the input power is off. VOA, VOB, VOC, and VOD outputs are high when CTRL2 is high or disconnected and VDD1 is off. VOA, VOB, VOC, and VOD outputs are (See Datasheet)", 11 VOD (hiz) "Logic Output D.", 12 VOC (hiz) "Logic Output C.", 13 VOB (hiz) "Logic Output B.", 14 VOA (hiz) "Logic Output A.", 15 GND2 (power) "Ground 2. Ground reference for Isolator Side 2. Pin 9 and Pin 15 are internally connected, and connecting both to GND2 is recommended.", 16 VDD2 (power) "Supply Voltage for Isolator Side 2 (2.7 V to 5.5 V)."

## ADUM1410ARWZ-RL
designator U?
Quad Channel Digital Isolator, 2.5 KV rms Insulation Rating, 1 Mbps Data Rate, 100 ns Delay, Industrial, 16-pin SOIC (RW-16), Reel; Manufacturer: Analog Devices; PartNumber: ADUM1410ARWZ-RL; Insulation Rating (kVrms): 2.5; Max Data Rate: 1Mbps; DatasheetVersion: Rev. I; PackageVersion: 032707-B, 03/2007; PackageReference: RW-16; PackageDescription: 16-Pin Standard Small Outline Package, Body 10.3 x 7.5 mm, Pitch 1.27 mm; Supplier 1: Digi-Key; Supplier Part Number 1: ADUM1410ARWZ-RLTR-ND; Max Operating Temp (degreesC): 105; Mounting Technology: Surface Mount; Code_JEDEC: MS-013-AA; ComponentLink1Description: Manufacturer URL; ComponentLink1URL: http://www.analog.com/en/index.html; ComponentLink2Description: Datasheet; ComponentLink2URL: http://www.analog.com/static/imported-files/data_sheets/ADUM1410_1411_1412.pdf; ComponentLink3Description: Package Specification; ComponentLink3URL: http://www.analog.com/static/imported-files/packages/PKG_PDF/SOIC_WIDE%20%28RW%29/RW_16.pdf; ComponentLink4Description: URL Link1; ComponentLink4URL: Product URL:http://www.analog.com/en/interface-isolation/digital-isolators/adum1410/products/product.html
footprint ADI-RW-16_N (SOIC, 16-Leads, Body 10.3x7.5mm, Pitch 1.27mm, IPC Medium Density)
footprint ADI-RW-16_L (SOIC, 16-Leads, Body 10.3x7.5mm, Pitch 1.27mm, IPC High Density)
footprint ADI-RW-16_M (SOIC, 16-Leads, Body 10.3x7.5mm, Pitch 1.27mm, IPC Low Density)
pins: 1 VDD1 (power) "Supply Voltage for Isolator Side 1 (2.7 V to 5.5 V).", 2 GND1 (power) "Ground 1. Ground reference for Isolator Side 1. Pin 2 and Pin 8 are internally connected, and connecting both to GND1 is recommended.", 3 VIA (in) "Logic Input A.", 4 VIB (in) "Logic Input B.", 5 VIC (in) "Logic Input C.", 6 VID (in) "Logic Input D.", 7 DISABLE (in) "Input Disable. Disables the isolator inputs and halts the dc refresh circuits. Outputs take on the logic state determined by CTRL2.", 8 GND1 (power) "Ground 1. Ground reference for Isolator Side 1. Pin 2 and Pin 8 are internally connected, and connecting both to GND1 is recommended.", 9 GND2 (power) "Ground 2. Ground reference for Isolator Side 2. Pin 9 and Pin 15 are internally connected, and connecting both to GND2 is recommended.", 10 CTRL2 (in) "Default Output Control. Controls the logic state the outputs assume when the input power is off. VOA, VOB, VOC, and VOD outputs are high when CTRL2 is high or disconnected and VDD1 is off. VOA, VOB, VOC, and VOD outputs are (See Datasheet)", 11 VOD (hiz) "Logic Output D.", 12 VOC (hiz) "Logic Output C.", 13 VOB (hiz) "Logic Output B.", 14 VOA (hiz) "Logic Output A.", 15 GND2 (power) "Ground 2. Ground reference for Isolator Side 2. Pin 9 and Pin 15 are internally connected, and connecting both to GND2 is recommended.", 16 VDD2 (power) "Supply Voltage for Isolator Side 2 (2.7 V to 5.5 V)."

## ADUM1410BRWZ
designator U?
Quad Channel Digital Isolator, 2.5 KV rms Insulation Rating, 10 Mbps Data Rate, 50 ns Delay, Industrial, 16-pin SOIC (RW-16), Tube; Manufacturer: Analog Devices; PartNumber: ADUM1410BRWZ; Insulation Rating (kVrms): 2.5; Max Data Rate: 10Mbps; DatasheetVersion: Rev. I; PackageVersion: 032707-B, 03/2007; PackageReference: RW-16; PackageDescription: 16-Pin Standard Small Outline Package, Body 10.3 x 7.5 mm, Pitch 1.27 mm; Supplier 1: Digi-Key; Supplier Part Number 1: ADUM1410BRWZ-ND; Max Operating Temp (degreesC): 105; Mounting Technology: Surface Mount; Code_JEDEC: MS-013-AA; ComponentLink1Description: Manufacturer URL; ComponentLink1URL: http://www.analog.com/en/index.html; ComponentLink2Description: Datasheet; ComponentLink2URL: http://www.analog.com/static/imported-files/data_sheets/ADUM1410_1411_1412.pdf; ComponentLink3Description: Package Specification; ComponentLink3URL: http://www.analog.com/static/imported-files/packages/PKG_PDF/SOIC_WIDE%20%28RW%29/RW_16.pdf; ComponentLink4Description: URL Link1; ComponentLink4URL: Product URL:http://www.analog.com/en/interface-isolation/digital-isolators/adum1410/products/product.html
footprint ADI-RW-16_N (SOIC, 16-Leads, Body 10.3x7.5mm, Pitch 1.27mm, IPC Medium Density)
footprint ADI-RW-16_L (SOIC, 16-Leads, Body 10.3x7.5mm, Pitch 1.27mm, IPC High Density)
footprint ADI-RW-16_M (SOIC, 16-Leads, Body 10.3x7.5mm, Pitch 1.27mm, IPC Low Density)
pins: 1 VDD1 (power) "Supply Voltage for Isolator Side 1 (2.7 V to 5.5 V).", 2 GND1 (power) "Ground 1. Ground reference for Isolator Side 1. Pin 2 and Pin 8 are internally connected, and connecting both to GND1 is recommended.", 3 VIA (in) "Logic Input A.", 4 VIB (in) "Logic Input B.", 5 VIC (in) "Logic Input C.", 6 VID (in) "Logic Input D.", 7 DISABLE (in) "Input Disable. Disables the isolator inputs and halts the dc refresh circuits. Outputs take on the logic state determined by CTRL2.", 8 GND1 (power) "Ground 1. Ground reference for Isolator Side 1. Pin 2 and Pin 8 are internally connected, and connecting both to GND1 is recommended.", 9 GND2 (power) "Ground 2. Ground reference for Isolator Side 2. Pin 9 and Pin 15 are internally connected, and connecting both to GND2 is recommended.", 10 CTRL2 (in) "Default Output Control. Controls the logic state the outputs assume when the input power is off. VOA, VOB, VOC, and VOD outputs are high when CTRL2 is high or disconnected and VDD1 is off. VOA, VOB, VOC, and VOD outputs are (See Datasheet)", 11 VOD (hiz) "Logic Output D.", 12 VOC (hiz) "Logic Output C.", 13 VOB (hiz) "Logic Output B.", 14 VOA (hiz) "Logic Output A.", 15 GND2 (power) "Ground 2. Ground reference for Isolator Side 2. Pin 9 and Pin 15 are internally connected, and connecting both to GND2 is recommended.", 16 VDD2 (power) "Supply Voltage for Isolator Side 2 (2.7 V to 5.5 V)."

## ADUM1410BRWZ-RL
designator U?
Quad Channel Digital Isolator, 2.5 KV rms Insulation Rating, 10 Mbps Data Rate, 50 ns Delay, Industrial, 16-pin SOIC (RW-16), Reel; Manufacturer: Analog Devices; PartNumber: ADUM1410BRWZ-RL; Insulation Rating (kVrms): 2.5; Max Data Rate: 10Mbps; DatasheetVersion: Rev. I; PackageVersion: 032707-B, 03/2007; PackageReference: RW-16; PackageDescription: 16-Pin Standard Small Outline Package, Body 10.3 x 7.5 mm, Pitch 1.27 mm; Supplier 1: Digi-Key; Supplier Part Number 1: ADUM1410BRWZ-RLTR-ND; Max Operating Temp (degreesC): 105; Mounting Technology: Surface Mount; Code_JEDEC: MS-013-AA; ComponentLink1Description: Manufacturer URL; ComponentLink1URL: http://www.analog.com/en/index.html; ComponentLink2Description: Datasheet; ComponentLink2URL: http://www.analog.com/static/imported-files/data_sheets/ADUM1410_1411_1412.pdf; ComponentLink3Description: Package Specification; ComponentLink3URL: http://www.analog.com/static/imported-files/packages/PKG_PDF/SOIC_WIDE%20%28RW%29/RW_16.pdf; ComponentLink4Description: URL Link1; ComponentLink4URL: Product URL:http://www.analog.com/en/interface-isolation/digital-isolators/adum1410/products/product.html
footprint ADI-RW-16_N (SOIC, 16-Leads, Body 10.3x7.5mm, Pitch 1.27mm, IPC Medium Density)
footprint ADI-RW-16_L (SOIC, 16-Leads, Body 10.3x7.5mm, Pitch 1.27mm, IPC High Density)
footprint ADI-RW-16_M (SOIC, 16-Leads, Body 10.3x7.5mm, Pitch 1.27mm, IPC Low Density)
pins: 1 VDD1 (power) "Supply Voltage for Isolator Side 1 (2.7 V to 5.5 V).", 2 GND1 (power) "Ground 1. Ground reference for Isolator Side 1. Pin 2 and Pin 8 are internally connected, and connecting both to GND1 is recommended.", 3 VIA (in) "Logic Input A.", 4 VIB (in) "Logic Input B.", 5 VIC (in) "Logic Input C.", 6 VID (in) "Logic Input D.", 7 DISABLE (in) "Input Disable. Disables the isolator inputs and halts the dc refresh circuits. Outputs take on the logic state determined by CTRL2.", 8 GND1 (power) "Ground 1. Ground reference for Isolator Side 1. Pin 2 and Pin 8 are internally connected, and connecting both to GND1 is recommended.", 9 GND2 (power) "Ground 2. Ground reference for Isolator Side 2. Pin 9 and Pin 15 are internally connected, and connecting both to GND2 is recommended.", 10 CTRL2 (in) "Default Output Control. Controls the logic state the outputs assume when the input power is off. VOA, VOB, VOC, and VOD outputs are high when CTRL2 is high or disconnected and VDD1 is off. VOA, VOB, VOC, and VOD outputs are (See Datasheet)", 11 VOD (hiz) "Logic Output D.", 12 VOC (hiz) "Logic Output C.", 13 VOB (hiz) "Logic Output B.", 14 VOA (hiz) "Logic Output A.", 15 GND2 (power) "Ground 2. Ground reference for Isolator Side 2. Pin 9 and Pin 15 are internally connected, and connecting both to GND2 is recommended.", 16 VDD2 (power) "Supply Voltage for Isolator Side 2 (2.7 V to 5.5 V)."

## ADUM1411ARWZ
designator U?
Quad Channel Digital Isolator, 2.5 KV rms Insulation Rating, 1 Mbps Data Rate, 100 ns Delay, Industrial, 16-pin SOIC (RW-16), Tube; Manufacturer: Analog Devices; PartNumber: ADUM1411ARWZ; Insulation Rating (kVrms): 2.5; Max Data Rate: 1Mbps; DatasheetVersion: Rev. I; PackageVersion: 032707-B, 03/2007; PackageReference: RW-16; PackageDescription: 16-Pin Standard Small Outline Package, Body 10.3 x 7.5 mm, Pitch 1.27 mm; Supplier 1: Digi-Key; Supplier Part Number 1: ADUM1411ARWZ-ND; Max Operating Temp (degreesC): 105; Mounting Technology: Surface Mount; Code_JEDEC: MS-013-AA; ComponentLink1Description: Manufacturer URL; ComponentLink1URL: http://www.analog.com/en/index.html; ComponentLink2Description: Datasheet; ComponentLink2URL: http://www.analog.com/static/imported-files/data_sheets/ADUM1410_1411_1412.pdf; ComponentLink3Description: Package Specification; ComponentLink3URL: http://www.analog.com/static/imported-files/packages/PKG_PDF/SOIC_WIDE%20%28RW%29/RW_16.pdf; ComponentLink4Description: URL Link1; ComponentLink4URL: Product URL:http://www.analog.com/en/interface-isolation/digital-isolators/adum1411/products/product.html
footprint ADI-RW-16_N (SOIC, 16-Leads, Body 10.3x7.5mm, Pitch 1.27mm, IPC Medium Density)
footprint ADI-RW-16_L (SOIC, 16-Leads, Body 10.3x7.5mm, Pitch 1.27mm, IPC High Density)
footprint ADI-RW-16_M (SOIC, 16-Leads, Body 10.3x7.5mm, Pitch 1.27mm, IPC Low Density)
pins: 1 VDD1 (power) "Supply Voltage for Isolator Side 1 (2.7 V to 5.5 V).", 2 GND1 (power) "Ground 1. Ground reference for Isolator Side 1. Pin 2 and Pin 8 are internally connected, and connecting both to GND1 is recommended.", 3 VIA (in) "Logic Input A.", 4 VIB (in) "Logic Input B.", 5 VIC (in) "Logic Input C.", 6 VOD (hiz) "Logic Output D.", 7 CTRL1 (in) "Default Output Control. Controls the logic state the outputs assume when the input power is off. VOD output is high when CTRL1 is high or disconnected and VDD2 is off. VOD output is low when CTRL1 is low and VDD2 is off. (See Datasheet)", 8 GND1 (power) "Ground 1. Ground reference for Isolator Side 1. Pin 2 and Pin 8 are internally connected, and connecting both to GND1 is recommended.", 9 GND2 (power) "Ground 2. Ground reference for Isolator Side 2. Pin 9 and Pin 15 are internally connected, and connecting both to GND2 is recommended.", 10 CTRL2 (in) "Default Output Control. Controls the logic state the outputs assume when the input power is off. VOA, VOB, and VOC outputs are high when CTRL2 is high or disconnected and VDD1 is off. VOA, VOB, and VOC outputs are low when (See Datasheet)", 11 VID (in) "Logic Input D.", 12 VOC (hiz) "Logic Output C.", 13 VOB (hiz) "Logic Output B.", 14 VOA (hiz) "Logic Output A.", 15 GND2 (power) "Ground 2. Ground reference for Isolator Side 2. Pin 9 and Pin 15 are internally connected, and connecting both to GND2 is recommended.", 16 VDD2 (power) "Supply Voltage for Isolator Side 2 (2.7 V to 5.5 V)."

## ADUM1411ARWZ-RL
designator U?
Quad Channel Digital Isolator, 2.5 KV rms Insulation Rating, 1 Mbps Data Rate, 100 ns Delay, Industrial, 16-pin SOIC (RW-16), Reel; Manufacturer: Analog Devices; PartNumber: ADUM1411ARWZ-RL; Insulation Rating (kVrms): 2.5; Max Data Rate: 1Mbps; DatasheetVersion: Rev. I; PackageVersion: 032707-B, 03/2007; PackageReference: RW-16; PackageDescription: 16-Pin Standard Small Outline Package, Body 10.3 x 7.5 mm, Pitch 1.27 mm; Supplier 1: Digi-Key; Supplier Part Number 1: ADUM1411ARWZ-RLTR-ND; Max Operating Temp (degreesC): 105; Mounting Technology: Surface Mount; Code_JEDEC: MS-013-AA; ComponentLink1Description: Manufacturer URL; ComponentLink1URL: http://www.analog.com/en/index.html; ComponentLink2Description: Datasheet; ComponentLink2URL: http://www.analog.com/static/imported-files/data_sheets/ADUM1410_1411_1412.pdf; ComponentLink3Description: Package Specification; ComponentLink3URL: http://www.analog.com/static/imported-files/packages/PKG_PDF/SOIC_WIDE%20%28RW%29/RW_16.pdf; ComponentLink4Description: URL Link1; ComponentLink4URL: Product URL:http://www.analog.com/en/interface-isolation/digital-isolators/adum1411/products/product.html
footprint ADI-RW-16_N (SOIC, 16-Leads, Body 10.3x7.5mm, Pitch 1.27mm, IPC Medium Density)
footprint ADI-RW-16_L (SOIC, 16-Leads, Body 10.3x7.5mm, Pitch 1.27mm, IPC High Density)
footprint ADI-RW-16_M (SOIC, 16-Leads, Body 10.3x7.5mm, Pitch 1.27mm, IPC Low Density)
pins: 1 VDD1 (power) "Supply Voltage for Isolator Side 1 (2.7 V to 5.5 V).", 2 GND1 (power) "Ground 1. Ground reference for Isolator Side 1. Pin 2 and Pin 8 are internally connected, and connecting both to GND1 is recommended.", 3 VIA (in) "Logic Input A.", 4 VIB (in) "Logic Input B.", 5 VIC (in) "Logic Input C.", 6 VOD (hiz) "Logic Output D.", 7 CTRL1 (in) "Default Output Control. Controls the logic state the outputs assume when the input power is off. VOD output is high when CTRL1 is high or disconnected and VDD2 is off. VOD output is low when CTRL1 is low and VDD2 is off. (See Datasheet)", 8 GND1 (power) "Ground 1. Ground reference for Isolator Side 1. Pin 2 and Pin 8 are internally connected, and connecting both to GND1 is recommended.", 9 GND2 (power) "Ground 2. Ground reference for Isolator Side 2. Pin 9 and Pin 15 are internally connected, and connecting both to GND2 is recommended.", 10 CTRL2 (in) "Default Output Control. Controls the logic state the outputs assume when the input power is off. VOA, VOB, and VOC outputs are high when CTRL2 is high or disconnected and VDD1 is off. VOA, VOB, and VOC outputs are low when (See Datasheet)", 11 VID (in) "Logic Input D.", 12 VOC (hiz) "Logic Output C.", 13 VOB (hiz) "Logic Output B.", 14 VOA (hiz) "Logic Output A.", 15 GND2 (power) "Ground 2. Ground reference for Isolator Side 2. Pin 9 and Pin 15 are internally connected, and connecting both to GND2 is recommended.", 16 VDD2 (power) "Supply Voltage for Isolator Side 2 (2.7 V to 5.5 V)."

## ADUM1411BRWZ
designator U?
Quad Channel Digital Isolator, 2.5 KV rms Insulation Rating, 10 Mbps Data Rate, 50 ns Delay, Industrial, 16-pin SOIC (RW-16), Tube; Manufacturer: Analog Devices; PartNumber: ADUM1411BRWZ; Insulation Rating (kVrms): 2.5; Max Data Rate: 10Mbps; DatasheetVersion: Rev. I; PackageVersion: 032707-B, 03/2007; PackageReference: RW-16; PackageDescription: 16-Pin Standard Small Outline Package, Body 10.3 x 7.5 mm, Pitch 1.27 mm; Supplier 1: Digi-Key; Supplier Part Number 1: ADUM1411BRWZ-ND; Max Operating Temp (degreesC): 105; Mounting Technology: Surface Mount; Code_JEDEC: MS-013-AA; ComponentLink1Description: Manufacturer URL; ComponentLink1URL: http://www.analog.com/en/index.html; ComponentLink2Description: Datasheet; ComponentLink2URL: http://www.analog.com/static/imported-files/data_sheets/ADUM1410_1411_1412.pdf; ComponentLink3Description: Package Specification; ComponentLink3URL: http://www.analog.com/static/imported-files/packages/PKG_PDF/SOIC_WIDE%20%28RW%29/RW_16.pdf; ComponentLink4Description: URL Link1; ComponentLink4URL: Product URL:http://www.analog.com/en/interface-isolation/digital-isolators/adum1411/products/product.html
footprint ADI-RW-16_N (SOIC, 16-Leads, Body 10.3x7.5mm, Pitch 1.27mm, IPC Medium Density)
footprint ADI-RW-16_L (SOIC, 16-Leads, Body 10.3x7.5mm, Pitch 1.27mm, IPC High Density)
footprint ADI-RW-16_M (SOIC, 16-Leads, Body 10.3x7.5mm, Pitch 1.27mm, IPC Low Density)
pins: 1 VDD1 (power) "Supply Voltage for Isolator Side 1 (2.7 V to 5.5 V).", 2 GND1 (power) "Ground 1. Ground reference for Isolator Side 1. Pin 2 and Pin 8 are internally connected, and connecting both to GND1 is recommended.", 3 VIA (in) "Logic Input A.", 4 VIB (in) "Logic Input B.", 5 VIC (in) "Logic Input C.", 6 VOD (hiz) "Logic Output D.", 7 CTRL1 (in) "Default Output Control. Controls the logic state the outputs assume when the input power is off. VOD output is high when CTRL1 is high or disconnected and VDD2 is off. VOD output is low when CTRL1 is low and VDD2 is off. (See Datasheet)", 8 GND1 (power) "Ground 1. Ground reference for Isolator Side 1. Pin 2 and Pin 8 are internally connected, and connecting both to GND1 is recommended.", 9 GND2 (power) "Ground 2. Ground reference for Isolator Side 2. Pin 9 and Pin 15 are internally connected, and connecting both to GND2 is recommended.", 10 CTRL2 (in) "Default Output Control. Controls the logic state the outputs assume when the input power is off. VOA, VOB, and VOC outputs are high when CTRL2 is high or disconnected and VDD1 is off. VOA, VOB, and VOC outputs are low when (See Datasheet)", 11 VID (in) "Logic Input D.", 12 VOC (hiz) "Logic Output C.", 13 VOB (hiz) "Logic Output B.", 14 VOA (hiz) "Logic Output A.", 15 GND2 (power) "Ground 2. Ground reference for Isolator Side 2. Pin 9 and Pin 15 are internally connected, and connecting both to GND2 is recommended.", 16 VDD2 (power) "Supply Voltage for Isolator Side 2 (2.7 V to 5.5 V)."

## ADUM1411BRWZ-RL
designator U?
Quad Channel Digital Isolator, 2.5 KV rms Insulation Rating, 10 Mbps Data Rate, 50 ns Delay, Industrial, 16-pin SOIC (RW-16), Reel; Manufacturer: Analog Devices; PartNumber: ADUM1411BRWZ-RL; Insulation Rating (kVrms): 2.5; Max Data Rate: 10Mbps; DatasheetVersion: Rev. I; PackageVersion: 032707-B, 03/2007; PackageReference: RW-16; PackageDescription: 16-Pin Standard Small Outline Package, Body 10.3 x 7.5 mm, Pitch 1.27 mm; Supplier 1: Digi-Key; Supplier Part Number 1: ADUM1411BRWZ-RL-ND; Max Operating Temp (degreesC): 105; Mounting Technology: Surface Mount; Code_JEDEC: MS-013-AA; ComponentLink1Description: Manufacturer URL; ComponentLink1URL: http://www.analog.com/en/index.html; ComponentLink2Description: Datasheet; ComponentLink2URL: http://www.analog.com/static/imported-files/data_sheets/ADUM1410_1411_1412.pdf; ComponentLink3Description: Package Specification; ComponentLink3URL: http://www.analog.com/static/imported-files/packages/PKG_PDF/SOIC_WIDE%20%28RW%29/RW_16.pdf; ComponentLink4Description: URL Link1; ComponentLink4URL: Product URL:http://www.analog.com/en/interface-isolation/digital-isolators/adum1411/products/product.html
footprint ADI-RW-16_N (SOIC, 16-Leads, Body 10.3x7.5mm, Pitch 1.27mm, IPC Medium Density)
footprint ADI-RW-16_L (SOIC, 16-Leads, Body 10.3x7.5mm, Pitch 1.27mm, IPC High Density)
footprint ADI-RW-16_M (SOIC, 16-Leads, Body 10.3x7.5mm, Pitch 1.27mm, IPC Low Density)
pins: 1 VDD1 (power) "Supply Voltage for Isolator Side 1 (2.7 V to 5.5 V).", 2 GND1 (power) "Ground 1. Ground reference for Isolator Side 1. Pin 2 and Pin 8 are internally connected, and connecting both to GND1 is recommended.", 3 VIA (in) "Logic Input A.", 4 VIB (in) "Logic Input B.", 5 VIC (in) "Logic Input C.", 6 VOD (hiz) "Logic Output D.", 7 CTRL1 (in) "Default Output Control. Controls the logic state the outputs assume when the input power is off. VOD output is high when CTRL1 is high or disconnected and VDD2 is off. VOD output is low when CTRL1 is low and VDD2 is off. (See Datasheet)", 8 GND1 (power) "Ground 1. Ground reference for Isolator Side 1. Pin 2 and Pin 8 are internally connected, and connecting both to GND1 is recommended.", 9 GND2 (power) "Ground 2. Ground reference for Isolator Side 2. Pin 9 and Pin 15 are internally connected, and connecting both to GND2 is recommended.", 10 CTRL2 (in) "Default Output Control. Controls the logic state the outputs assume when the input power is off. VOA, VOB, and VOC outputs are high when CTRL2 is high or disconnected and VDD1 is off. VOA, VOB, and VOC outputs are low when (See Datasheet)", 11 VID (in) "Logic Input D.", 12 VOC (hiz) "Logic Output C.", 13 VOB (hiz) "Logic Output B.", 14 VOA (hiz) "Logic Output A.", 15 GND2 (power) "Ground 2. Ground reference for Isolator Side 2. Pin 9 and Pin 15 are internally connected, and connecting both to GND2 is recommended.", 16 VDD2 (power) "Supply Voltage for Isolator Side 2 (2.7 V to 5.5 V)."